# Altium integrated library Ferrite Chip.IntLib: 462 symbols (part 2 of 7)
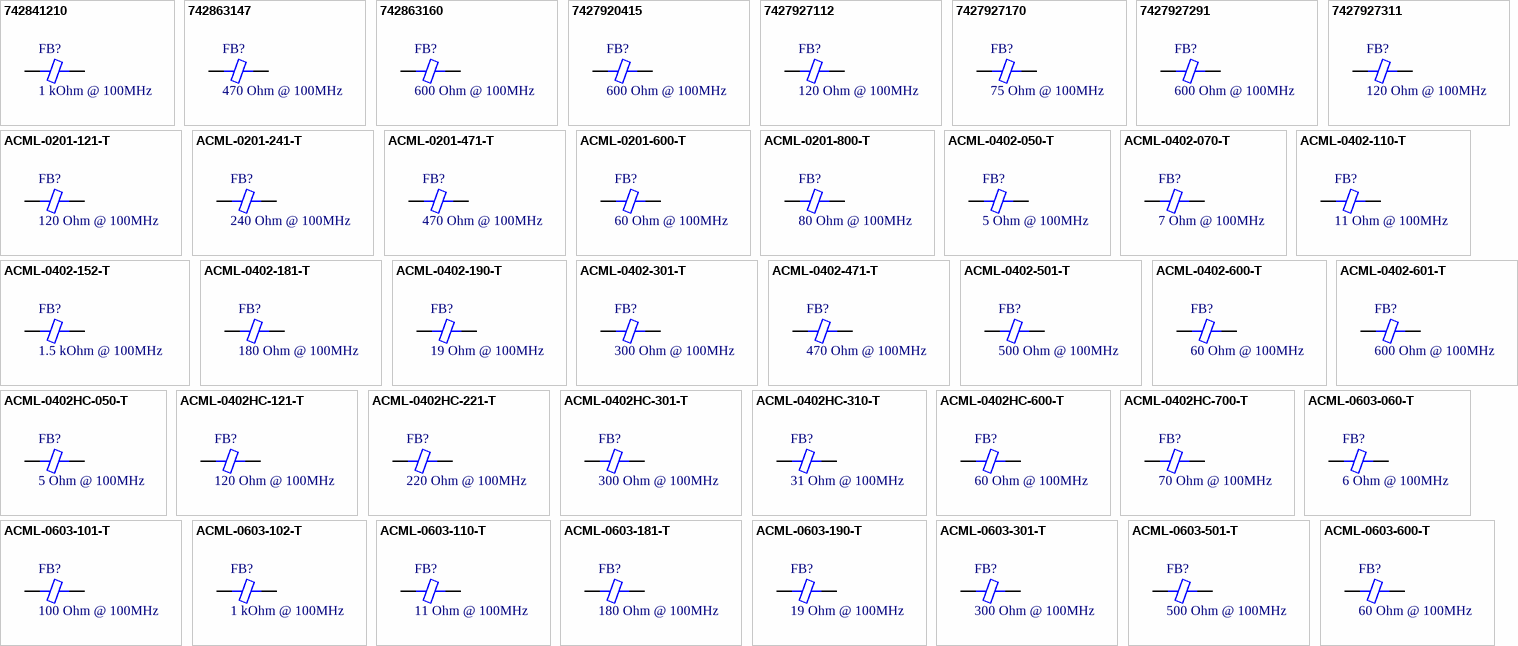
[diagram p12: symbols 742841210 to ACML-0603-600-T]

## ACML-0603-110-T
designator FB?, comment 11 Ohm @ 100MHz
FERRITE CHIP 11 OHM 1000MA 0603; Part Number: ACML-0603-110-T; Manufacturer: Abracon LLC; Type: Differential Mode - Single; DC Resistance: 50 mOhm Max; Current Rating: 1A; PartId: 6627; Value: 11 Ohm @ 100MHz; Supplier 1: Digi-Key; Supplier Part Number 1: ACML-0603-110-TTR-ND; ComponentLink1Description: Datasheet; ComponentLink1URL: http://www.abracon.com/Magnetics/new/ACML-0603.pdf; ComponentLink2Description: Digi-Key listing; ComponentLink2URL: http://digikey.com/product-detail/en/ACML-0603-110-T/ACML-0603-110-TTR-ND/2343466; Price: 0.0275; Device Package: 0603 (1608 Metric)
footprint FER 0603/1608
pins: 1, 2

## ACML-0603-181-T
designator FB?, comment 180 Ohm @ 100MHz
FERRITE CHIP 180 OHM 200MA 0603; Part Number: ACML-0603-181-T; Manufacturer: Abracon LLC; Type: Differential Mode - Single; DC Resistance: 300 mOhm Max; PartId: 6629; Value: 180 Ohm @ 100MHz; Supplier 1: Digi-Key; Supplier Part Number 1: ACML-0603-181-TTR-ND; ComponentLink1Description: Datasheet; ComponentLink1URL: http://www.abracon.com/Magnetics/new/ACML-0603.pdf; ComponentLink2Description: Digi-Key listing; ComponentLink2URL: http://digikey.com/product-detail/en/ACML-0603-181-T/ACML-0603-181-TTR-ND/2343473; Price: 0.0275; Device Package: 0603 (1608 Metric); Current Rating: 200mA
footprint FER 0603/1608
pins: 1, 2

## ACML-0603-190-T
designator FB?, comment 19 Ohm @ 100MHz
FERRITE CHIP 19 OHM 1000MA 0603; Part Number: ACML-0603-190-T; Manufacturer: Abracon LLC; Type: Differential Mode - Single; DC Resistance: 50 mOhm Max; Current Rating: 1A; PartId: 6628; Value: 19 Ohm @ 100MHz; Supplier 1: Digi-Key; Supplier Part Number 1: ACML-0603-190-TTR-ND; ComponentLink1Description: Datasheet; ComponentLink1URL: http://www.abracon.com/Magnetics/new/ACML-0603.pdf; ComponentLink2Description: Digi-Key listing; ComponentLink2URL: http://digikey.com/product-detail/en/ACML-0603-190-T/ACML-0603-190-TTR-ND/2343467; Price: 0.0275; Device Package: 0603 (1608 Metric)
footprint FER 0603/1608
pins: 1, 2

## ACML-0603-301-T
designator FB?, comment 300 Ohm @ 100MHz
FERRITE CHIP 300 OHM 200MA 0603; Part Number: ACML-0603-301-T; Manufacturer: Abracon LLC; Type: Differential Mode - Single; DC Resistance: 350 mOhm Max; PartId: 6623; Value: 300 Ohm @ 100MHz; Supplier 1: Digi-Key; Supplier Part Number 1: ACML-0603-301-TTR-ND; ComponentLink1Description: Datasheet; ComponentLink1URL: http://www.abracon.com/Magnetics/new/ACML-0603.pdf; ComponentLink2Description: Digi-Key listing; ComponentLink2URL: http://digikey.com/product-detail/en/ACML-0603-301-T/ACML-0603-301-TTR-ND/2343475; Price: 0.0275; Device Package: 0603 (1608 Metric); Current Rating: 200mA
footprint FER 0603/1608
pins: 1, 2

## ACML-0603-501-T
designator FB?, comment 500 Ohm @ 100MHz
FERRITE CHIP 500 OHM 200MA 0603; Part Number: ACML-0603-501-T; Manufacturer: Abracon LLC; Type: Differential Mode - Single; DC Resistance: 450 mOhm Max; PartId: 6630; Value: 500 Ohm @ 100MHz; Supplier 1: Digi-Key; Supplier Part Number 1: ACML-0603-501-TTR-ND; ComponentLink1Description: Datasheet; ComponentLink1URL: http://www.abracon.com/Magnetics/new/ACML-0603.pdf; ComponentLink2Description: Digi-Key listing; ComponentLink2URL: http://digikey.com/product-detail/en/ACML-0603-501-T/ACML-0603-501-TTR-ND/2343476; Price: 0.0275; Device Package: 0603 (1608 Metric); Current Rating: 200mA
footprint FER 0603/1608
pins: 1, 2

## ACML-0603-600-T
designator FB?, comment 60 Ohm @ 100MHz
FERRITE CHIP 60 OHM 600MA 0603; Part Number: ACML-0603-600-T; Manufacturer: Abracon LLC; Type: Differential Mode - Single; DC Resistance: 300 mOhm Max; PartId: 6625; Value: 60 Ohm @ 100MHz; Supplier 1: Digi-Key; Supplier Part Number 1: ACML-0603-600-TTR-ND; ComponentLink1Description: Datasheet; ComponentLink1URL: http://www.abracon.com/Magnetics/new/ACML-0603.pdf; ComponentLink2Description: Digi-Key listing; ComponentLink2URL: http://digikey.com/product-detail/en/ACML-0603-600-T/ACML-0603-600-TTR-ND/2343469; Price: 0.0275; Device Package: 0603 (1608 Metric); Current Rating: 600mA
footprint FER 0603/1608
pins: 1, 2

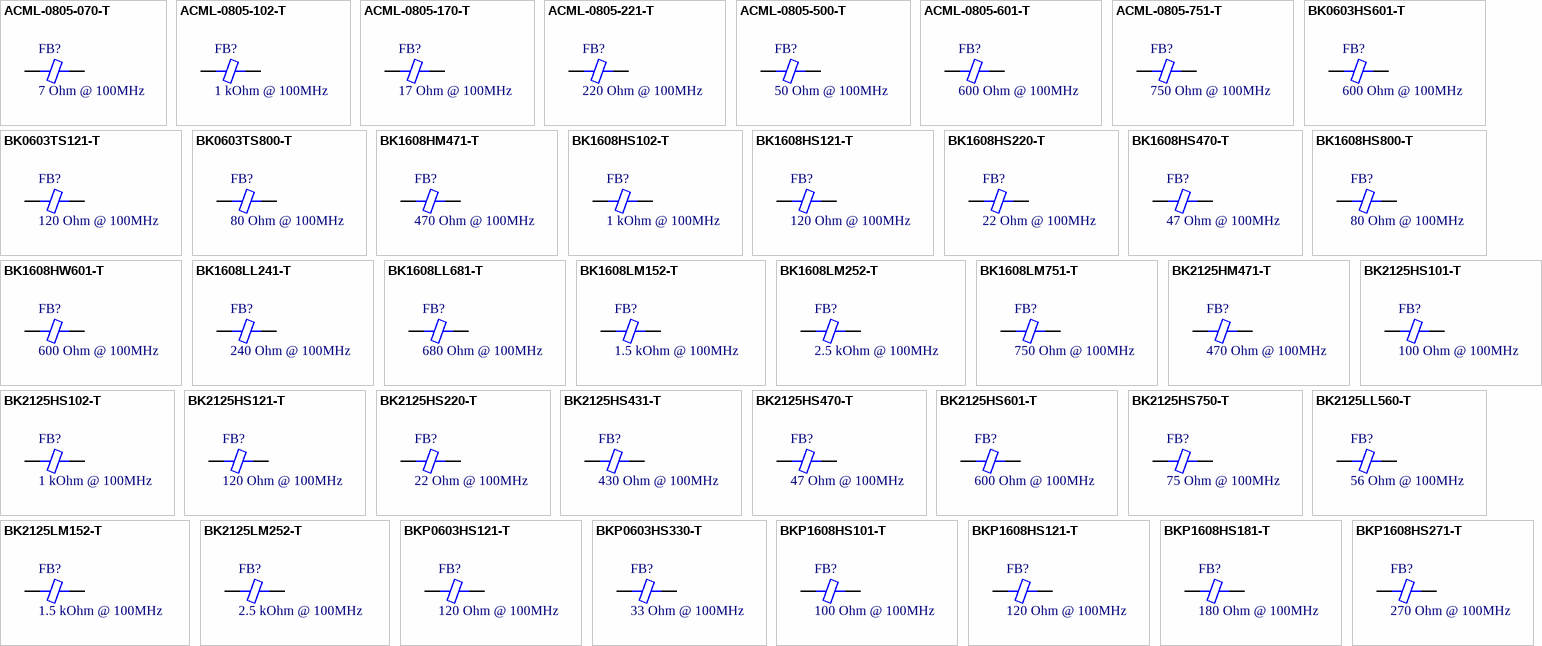
[diagram p2: symbols ACML-0805-070-T to BKP1608HS271-T]

## ACML-0805-070-T
designator FB?, comment 7 Ohm @ 100MHz
FERRITE CHIP 7 OHM 2200MA 0805; Part Number: ACML-0805-070-T; Manufacturer: Abracon LLC; DC Resistance: 50 mOhm; Current Rating: 2.2A; PartId: 6762; Value: 7 Ohm @ 100MHz; Supplier 1: Digi-Key; Supplier Part Number 1: 535-12549-2-ND; ComponentLink1Description: Datasheet; ComponentLink1URL: http://www.abracon.com/Magnetics/new/ACML-0805.pdf; ComponentLink2Description: Digi-Key listing; ComponentLink2URL: http://digikey.com/product-detail/en/ACML-0805-070-T/535-12549-2-ND/4696687; Price: 0.0166; Type: -; Device Package: 0805 (2012 Metric)
footprint FER 0805/2012
pins: 1, 2

## ACML-0805-102-T
designator FB?, comment 1 kOhm @ 100MHz
FERRITE CHIP 1000 OHM 300MA 0805; Part Number: ACML-0805-102-T; Manufacturer: Abracon LLC; DC Resistance: 450 mOhm; PartId: 6786; Value: 1 kOhm @ 100MHz; Supplier 1: Digi-Key; Supplier Part Number 1: 535-12558-2-ND; ComponentLink1Description: Datasheet; ComponentLink1URL: http://www.abracon.com/Magnetics/new/ACML-0805.pdf; ComponentLink2Description: Digi-Key listing; ComponentLink2URL: http://digikey.com/product-detail/en/ACML-0805-102-T/535-12558-2-ND/4696707; Price: 0.0298; Type: -; Device Package: 0805 (2012 Metric); Current Rating: 300mA
footprint FER 0805/2012
pins: 1, 2

## ACML-0805-170-T
designator FB?, comment 17 Ohm @ 100MHz
FERRITE CHIP 17 OHM 2000MA 0805; Part Number: ACML-0805-170-T; Manufacturer: Abracon LLC; DC Resistance: 50 mOhm; Current Rating: 2A; PartId: 6767; Value: 17 Ohm @ 100MHz; Supplier 1: Digi-Key; Supplier Part Number 1: 535-12551-2-ND; ComponentLink1Description: Datasheet; ComponentLink1URL: http://www.abracon.com/Magnetics/new/ACML-0805.pdf; ComponentLink2Description: Digi-Key listing; ComponentLink2URL: http://digikey.com/product-detail/en/ACML-0805-170-T/535-12551-2-ND/4696689; Price: 0.0172; Type: -; Device Package: 0805 (2012 Metric)
footprint FER 0805/2012
pins: 1, 2

## ACML-0805-221-T
designator FB?, comment 220 Ohm @ 100MHz
FERRITE CHIP 220 OHM 600MA 0805; Part Number: ACML-0805-221-T; Manufacturer: Abracon LLC; DC Resistance: 200 mOhm; PartId: 6765; Value: 220 Ohm @ 100MHz; Supplier 1: Digi-Key; Supplier Part Number 1: 535-12555-2-ND; ComponentLink1Description: Datasheet; ComponentLink1URL: http://www.abracon.com/Magnetics/new/ACML-0805.pdf; ComponentLink2Description: Digi-Key listing; ComponentLink2URL: http://digikey.com/product-detail/en/ACML-0805-221-T/535-12555-2-ND/4696702; Price: 0.0172; Type: -; Device Package: 0805 (2012 Metric); Current Rating: 600mA
footprint FER 0805/2012
pins: 1, 2

## ACML-0805-500-T
designator FB?, comment 50 Ohm @ 100MHz
FERRITE CHIP 50 OHM 1000MA 0805; Part Number: ACML-0805-500-T; Manufacturer: Abracon LLC; DC Resistance: 50 mOhm; Current Rating: 1A; PartId: 6764; Value: 50 Ohm @ 100MHz; Supplier 1: Digi-Key; Supplier Part Number 1: 535-12552-2-ND; ComponentLink1Description: Datasheet; ComponentLink1URL: http://www.abracon.com/Magnetics/new/ACML-0805.pdf; ComponentLink2Description: Digi-Key listing; ComponentLink2URL: http://digikey.com/product-detail/en/ACML-0805-500-T/535-12552-2-ND/4696694; Price: 0.0172; Type: -; Device Package: 0805 (2012 Metric)
footprint FER 0805/2012
pins: 1, 2

## ACML-0805-601-T
designator FB?, comment 600 Ohm @ 100MHz
FERRITE CHIP 600 OHM 500MA 0805; Part Number: ACML-0805-601-T; Manufacturer: Abracon LLC; DC Resistance: 350 mOhm; PartId: 6766; Value: 600 Ohm @ 100MHz; Supplier 1: Digi-Key; Supplier Part Number 1: 535-12556-2-ND; ComponentLink1Description: Datasheet; ComponentLink1URL: http://www.abracon.com/Magnetics/new/ACML-0805.pdf; ComponentLink2Description: Digi-Key listing; ComponentLink2URL: http://digikey.com/product-detail/en/ACML-0805-601-T/535-12556-2-ND/4696705; Price: 0.0172; Type: -; Device Package: 0805 (2012 Metric); Current Rating: 500mA
footprint FER 0805/2012
pins: 1, 2

## ACML-0805-751-T
designator FB?, comment 750 Ohm @ 100MHz
FERRITE CHIP 750 OHM 300MA 0805; Part Number: ACML-0805-751-T; Manufacturer: Abracon LLC; DC Resistance: 350 mOhm; PartId: 6785; Value: 750 Ohm @ 100MHz; Supplier 1: Digi-Key; Supplier Part Number 1: 535-12557-2-ND; ComponentLink1Description: Datasheet; ComponentLink1URL: http://www.abracon.com/Magnetics/new/ACML-0805.pdf; ComponentLink2Description: Digi-Key listing; ComponentLink2URL: http://digikey.com/product-detail/en/ACML-0805-751-T/535-12557-2-ND/4696706; Price: 0.0298; Type: -; Device Package: 0805 (2012 Metric); Current Rating: 300mA
footprint FER 0805/2012
pins: 1, 2

## BK0603HS601-T
designator FB?, comment 600 Ohm @ 100MHz
FERRITE BEAD 600 OHM 0201 1LN; Part Number: BK0603HS601-T; Manufacturer: Taiyo Yuden; DC Resistance: 1.2 Ohm; Current Rating: 150mA; PartId: 20388; Value: 600 Ohm @ 100MHz; Supplier 1: Digi-Key; Supplier Part Number 1: 587-1829-2-ND; ComponentLink1Description: Datasheet; ComponentLink1URL: http://ds.yuden.co.jp/TYCOMPAS/ut/detail.do?productNo=BK0603HS601-T&fileName=BK0603HS601-T_SS&mode=specSheetDownload; ComponentLink2Description: Digi-Key Listing; ComponentLink2URL: https://www.digikey.com/product-detail/en/taiyo-yuden/BK0603HS601-T/587-1829-2-ND/1169416; Price: 0.0295; Device Package: 0201 (0603 Metric)
footprint FER 0201/0603
pins: 1, 2

## BK0603TS121-T
designator FB?, comment 120 Ohm @ 100MHz
FERRITE BEAD 120 OHM 0201 1LN; Part Number: BK0603TS121-T; Manufacturer: Taiyo Yuden; DC Resistance: 230 mOhm; Current Rating: 450mA; PartId: 20371; Value: 120 Ohm @ 100MHz; Supplier 1: Digi-Key; Supplier Part Number 1: 587-3275-2-ND; ComponentLink1Description: Datasheet; ComponentLink1URL: http://ds.yuden.co.jp/TYCOMPAS/ut/detail.do?productNo=BK0603TS121-T&fileName=BK0603TS121-T_SS&mode=specSheetDownload; ComponentLink2Description: Digi-Key Listing; ComponentLink2URL: https://www.digikey.com/product-detail/en/taiyo-yuden/BK0603TS121-T/587-3275-2-ND/4157978; Price: 0.0295; Device Package: 0201 (0603 Metric)
footprint FER 0201/0603
pins: 1, 2

## BK0603TS800-T
designator FB?, comment 80 Ohm @ 100MHz
FERRITE BEAD 80 OHM 0201 1LN; Part Number: BK0603TS800-T; Manufacturer: Taiyo Yuden; DC Resistance: 180 mOhm; Current Rating: 500mA; PartId: 20389; Value: 80 Ohm @ 100MHz; Supplier 1: Digi-Key; Supplier Part Number 1: 587-3278-2-ND; ComponentLink1Description: Datasheet; ComponentLink1URL: http://ds.yuden.co.jp/TYCOMPAS/ut/detail.do?productNo=BK0603TS800-T&fileName=BK0603TS800-T_SS&mode=specSheetDownload; ComponentLink2Description: Digi-Key Listing; ComponentLink2URL: https://www.digikey.com/product-detail/en/taiyo-yuden/BK0603TS800-T/587-3278-2-ND/4157981; Price: 0.0295; Device Package: 0201 (0603 Metric)
footprint FER 0201/0603
pins: 1, 2

## BK1608HM471-T
designator FB?, comment 470 Ohm @ 100MHz
FERRITE CHIP 470 OHM 0603; Part Number: BK1608HM471-T; Manufacturer: Taiyo Yuden; Type: Differential Mode - Single; DC Resistance: 450 mOhm Max; Current Rating: 250mA; PartId: 6657; Value: 470 Ohm @ 100MHz; Supplier 1: Digi-Key; Supplier Part Number 1: 587-1865-2-ND; ComponentLink1Description: Datasheet; ComponentLink1URL: http://ds.yuden.co.jp/TYCOMPAS/ut/detail.do?productNo=BK1608HM471-T&fileName=BK1608HM471-T_SS&mode=specSheetDownload; ComponentLink2Description: Digi-Key listing; ComponentLink2URL: http://digikey.com/product-detail/en/BK1608HM471-T/587-1865-2-ND/957742; Price: 0.0301; Device Package: 0603 (1608 Metric)
footprint FER 0603/1608
pins: 1, 2

## BK1608HS102-T
designator FB?, comment 1 kOhm @ 100MHz
FERRITE CHIP 1000 OHM 0603; Part Number: BK1608HS102-T; Manufacturer: Taiyo Yuden; Type: Differential Mode - Single; DC Resistance: 600 mOhm Max; Current Rating: 300mA; PartId: 6589; Value: 1 kOhm @ 100MHz; Supplier 1: Digi-Key; Supplier Part Number 1: 587-1867-2-ND; ComponentLink1Description: Datasheet; ComponentLink1URL: http://ds.yuden.co.jp/TYCOMPAS/ut/detail.do?productNo=BK1608HS102-T&fileName=BK1608HS102-T_SS&mode=specSheetDownload; ComponentLink2Description: Digi-Key listing; ComponentLink2URL: http://digikey.com/product-detail/en/BK1608HS102-T/587-1867-2-ND/957744; Price: 0.0247; Device Package: 0603 (1608 Metric)
footprint FER 0603/1608
pins: 1, 2

## BK1608HS121-T
designator FB?, comment 120 Ohm @ 100MHz
FERRITE CHIP 120 OHM 0603; Part Number: BK1608HS121-T; Manufacturer: Taiyo Yuden; Type: Differential Mode - Single; DC Resistance: 180 mOhm Max; Current Rating: 500mA; PartId: 6593; Value: 120 Ohm @ 100MHz; Supplier 1: Digi-Key; Supplier Part Number 1: 587-1868-2-ND; ComponentLink1Description: Datasheet; ComponentLink1URL: http://ds.yuden.co.jp/TYCOMPAS/ut/detail.do?productNo=BK1608HS121-T&fileName=BK1608HS121-T_SS&mode=specSheetDownload; ComponentLink2Description: Digi-Key listing; ComponentLink2URL: http://digikey.com/product-detail/en/BK1608HS121-T/587-1868-2-ND/957745; Price: 0.0247; Device Package: 0603 (1608 Metric)
footprint FER 0603/1608
pins: 1, 2

## BK1608HS220-T
designator FB?, comment 22 Ohm @ 100MHz
FERRITE CHIP 22 OHM 0603; Part Number: BK1608HS220-T; Manufacturer: Taiyo Yuden; Type: Differential Mode - Single; DC Resistance: 50 mOhm Max; Current Rating: 1.5A; PartId: 6654; Value: 22 Ohm @ 100MHz; Supplier 1: Digi-Key; Supplier Part Number 1: 587-1869-2-ND; ComponentLink1Description: Datasheet; ComponentLink1URL: http://ds.yuden.co.jp/TYCOMPAS/ut/detail.do?productNo=BK1608HS220-T&fileName=BK1608HS220-T_SS&mode=specSheetDownload; ComponentLink2Description: Digi-Key listing; ComponentLink2URL: http://digikey.com/product-detail/en/BK1608HS220-T/587-1869-2-ND/957746; Price: 0.0301; Device Package: 0603 (1608 Metric)
footprint FER 0603/1608
pins: 1, 2

## BK1608HS470-T
designator FB?, comment 47 Ohm @ 100MHz
FERRITE CHIP 47 OHM 0603; Part Number: BK1608HS470-T; Manufacturer: Taiyo Yuden; Type: Differential Mode - Single; DC Resistance: 100 mOhm Max; Current Rating: 900mA; PartId: 6650; Value: 47 Ohm @ 100MHz; Supplier 1: Digi-Key; Supplier Part Number 1: 587-1872-2-ND; ComponentLink1Description: Datasheet; ComponentLink1URL: http://ds.yuden.co.jp/TYCOMPAS/ut/detail.do?productNo=BK1608HS470-T&fileName=BK1608HS470-T_SS&mode=specSheetDownload; ComponentLink2Description: Digi-Key listing; ComponentLink2URL: http://digikey.com/product-detail/en/BK1608HS470-T/587-1872-2-ND/957749; Price: 0.0301; Device Package: 0603 (1608 Metric)
footprint FER 0603/1608
pins: 1, 2

## BK1608HS800-T
designator FB?, comment 80 Ohm @ 100MHz
FERRITE CHIP 80 OHM 0603; Part Number: BK1608HS800-T; Manufacturer: Taiyo Yuden; Type: Differential Mode - Single; DC Resistance: 100 mOhm Max; Current Rating: 600mA; PartId: 6652; Value: 80 Ohm @ 100MHz; Supplier 1: Digi-Key; Supplier Part Number 1: 587-1875-2-ND; ComponentLink1Description: Datasheet; ComponentLink1URL: http://ds.yuden.co.jp/TYCOMPAS/ut/detail.do?productNo=BK1608HS800-T&fileName=BK1608HS800-T_SS&mode=specSheetDownload; ComponentLink2Description: Digi-Key listing; ComponentLink2URL: http://digikey.com/product-detail/en/BK1608HS800-T/587-1875-2-ND/957752; Price: 0.0301; Device Package: 0603 (1608 Metric)
footprint FER 0603/1608
pins: 1, 2

## BK1608HW601-T
designator FB?, comment 600 Ohm @ 100MHz
FERRITE CHIP 600 OHM 0603; Part Number: BK1608HW601-T; Manufacturer: Taiyo Yuden; Type: Differential Mode - Single; DC Resistance: 400 mOhm Max; Current Rating: 300mA; PartId: 6588; Value: 600 Ohm @ 100MHz; Supplier 1: Digi-Key; Supplier Part Number 1: 587-1879-2-ND; ComponentLink1Description: Datasheet; ComponentLink1URL: http://ds.yuden.co.jp/TYCOMPAS/ut/detail.do?productNo=BK1608HW601-T&fileName=BK1608HW601-T_SS&mode=specSheetDownload; ComponentLink2Description: Digi-Key listing; ComponentLink2URL: http://digikey.com/product-detail/en/BK1608HW601-T/587-1879-2-ND/957756; Price: 0.0247; Device Package: 0603 (1608 Metric)
footprint FER 0603/1608
pins: 1, 2

## BK1608LL241-T
designator FB?, comment 240 Ohm @ 100MHz
FERRITE CHIP 240 OHM 0603; Part Number: BK1608LL241-T; Manufacturer: Taiyo Yuden; Type: Differential Mode - Single; DC Resistance: 800 mOhm Max; Current Rating: 250mA; PartId: 6659; Value: 240 Ohm @ 100MHz; Supplier 1: Digi-Key; Supplier Part Number 1: 587-1882-2-ND; ComponentLink1Description: Datasheet; ComponentLink1URL: http://ds.yuden.co.jp/TYCOMPAS/ut/detail.do?productNo=BK1608LL241-T&fileName=BK1608LL241-T_SS&mode=specSheetDownload; ComponentLink2Description: Digi-Key listing; ComponentLink2URL: http://digikey.com/product-detail/en/BK1608LL241-T/587-1882-2-ND/957759; Price: 0.0301; Device Package: 0603 (1608 Metric)
footprint FER 0603/1608
pins: 1, 2

## BK1608LL681-T
designator FB?, comment 680 Ohm @ 100MHz
FERRITE CHIP 680 OHM 0603; Part Number: BK1608LL681-T; Manufacturer: Taiyo Yuden; Type: Differential Mode - Single; DC Resistance: 1 Ohm Max; Current Rating: 150mA; PartId: 6660; Value: 680 Ohm @ 100MHz; Supplier 1: Digi-Key; Supplier Part Number 1: 587-1890-2-ND; ComponentLink1Description: Datasheet; ComponentLink1URL: http://ds.yuden.co.jp/TYCOMPAS/ut/detail.do?productNo=BK1608LL681-T&fileName=BK1608LL681-T_SS&mode=specSheetDownload; ComponentLink2Description: Digi-Key listing; ComponentLink2URL: http://digikey.com/product-detail/en/BK1608LL681-T/587-1890-2-ND/957767; Price: 0.0301; Device Package: 0603 (1608 Metric)
footprint FER 0603/1608
pins: 1, 2

## BK1608LM152-T
designator FB?, comment 1.5 kOhm @ 100MHz
FERRITE CHIP 1500 OHM 0603; Part Number: BK1608LM152-T; Manufacturer: Taiyo Yuden; Type: Differential Mode - Single; DC Resistance: 750 mOhm Max; Current Rating: 250mA; PartId: 6658; Value: 1.5 kOhm @ 100MHz; Supplier 1: Digi-Key; Supplier Part Number 1: 587-1891-2-ND; ComponentLink1Description: Datasheet; ComponentLink1URL: http://ds.yuden.co.jp/TYCOMPAS/ut/detail.do?productNo=BK1608LM152-T&fileName=BK1608LM152-T_SS&mode=specSheetDownload; ComponentLink2Description: Digi-Key listing; ComponentLink2URL: http://digikey.com/product-detail/en/BK1608LM152-T/587-1891-2-ND/957768; Price: 0.0301; Device Package: 0603 (1608 Metric)
footprint FER 0603/1608
pins: 1, 2

## BK1608LM252-T
designator FB?, comment 2.5 kOhm @ 100MHz
FERRITE CHIP 2500 OHM 0603; Part Number: BK1608LM252-T; Manufacturer: Taiyo Yuden; Type: Differential Mode - Single; DC Resistance: 1.1 Ohm Max; Current Rating: 200mA; PartId: 6587; Value: 2.5 kOhm @ 100MHz; Supplier 1: Digi-Key; Supplier Part Number 1: 587-1893-2-ND; ComponentLink1Description: Datasheet; ComponentLink1URL: http://ds.yuden.co.jp/TYCOMPAS/ut/detail.do?productNo=BK1608LM252-T&fileName=BK1608LM252-T_SS&mode=specSheetDownload; ComponentLink2Description: Digi-Key listing; ComponentLink2URL: http://digikey.com/product-detail/en/BK1608LM252-T/587-1893-2-ND/957770; Price: 0.0247; Device Package: 0603 (1608 Metric)
footprint FER 0603/1608
pins: 1, 2

## BK1608LM751-T
designator FB?, comment 750 Ohm @ 100MHz
FERRITE CHIP 750 OHM 0603; Part Number: BK1608LM751-T; Manufacturer: Taiyo Yuden; Type: Differential Mode - Single; DC Resistance: 600 mOhm Max; Current Rating: 300mA; PartId: 6663; Value: 750 Ohm @ 100MHz; Supplier 1: Digi-Key; Supplier Part Number 1: 587-1894-2-ND; ComponentLink1Description: Datasheet; ComponentLink1URL: http://ds.yuden.co.jp/TYCOMPAS/ut/detail.do?productNo=BK1608LM751-T&fileName=BK1608LM751-T_SS&mode=specSheetDownload; ComponentLink2Description: Digi-Key listing; ComponentLink2URL: http://digikey.com/product-detail/en/BK1608LM751-T/587-1894-2-ND/957771; Price: 0.0301; Device Package: 0603 (1608 Metric)
footprint FER 0603/1608
pins: 1, 2

## BK2125HM471-T
designator FB?, comment 470 Ohm @ 100MHz
FERRITE CHIP 470 OHM 0805; Part Number: BK2125HM471-T; Manufacturer: Taiyo Yuden; Type: Differential Mode - Single; DC Resistance: 250 mOhm Max; Current Rating: 500mA; PartId: 6812; Value: 470 Ohm @ 100MHz; Supplier 1: Digi-Key; Supplier Part Number 1: 587-1901-2-ND; ComponentLink1Description: Datasheet; ComponentLink1URL: http://ds.yuden.co.jp/TYCOMPAS/ut/detail.do?productNo=BK2125HM471-T&fileName=BK2125HM471-T_SS&mode=specSheetDownload; ComponentLink2Description: Digi-Key listing; ComponentLink2URL: http://digikey.com/product-detail/en/BK2125HM471-T/587-1901-2-ND/957802; Price: 0.0368; Device Package: 0805 (2012 Metric)
footprint FER 0805/2012
pins: 1, 2

## BK2125HS101-T
designator FB?, comment 100 Ohm @ 100MHz
FERRITE CHIP 100 OHM 0805; Part Number: BK2125HS101-T; Manufacturer: Taiyo Yuden; Type: Differential Mode - Single; DC Resistance: 100 mOhm Max; Current Rating: 900mA; PartId: 6777; Value: 100 Ohm @ 100MHz; Supplier 1: Digi-Key; Supplier Part Number 1: 587-1903-2-ND; ComponentLink1Description: Datasheet; ComponentLink1URL: http://ds.yuden.co.jp/TYCOMPAS/ut/detail.do?productNo=BK2125HS101-T&fileName=BK2125HS101-T_SS&mode=specSheetDownload; ComponentLink2Description: Digi-Key listing; ComponentLink2URL: http://digikey.com/product-detail/en/BK2125HS101-T/587-1903-2-ND/957804; Price: 0.0278; Device Package: 0805 (2012 Metric)
footprint FER 0805/2012
pins: 1, 2

## BK2125HS102-T
designator FB?, comment 1 kOhm @ 100MHz
FERRITE CHIP 1000 OHM 0805; Part Number: BK2125HS102-T; Manufacturer: Taiyo Yuden; Type: Differential Mode - Single; DC Resistance: 400 mOhm Max; Current Rating: 300mA; PartId: 6778; Value: 1 kOhm @ 100MHz; Supplier 1: Digi-Key; Supplier Part Number 1: 587-1904-2-ND; ComponentLink1Description: Datasheet; ComponentLink1URL: http://ds.yuden.co.jp/TYCOMPAS/ut/detail.do?productNo=BK2125HS102-T&fileName=BK2125HS102-T_SS&mode=specSheetDownload; ComponentLink2Description: Digi-Key listing; ComponentLink2URL: http://digikey.com/product-detail/en/BK2125HS102-T/587-1904-2-ND/957805; Price: 0.0278; Device Package: 0805 (2012 Metric)
footprint FER 0805/2012
pins: 1, 2

## BK2125HS121-T
designator FB?, comment 120 Ohm @ 100MHz
FERRITE CHIP 120 OHM 0805; Part Number: BK2125HS121-T; Manufacturer: Taiyo Yuden; Type: Differential Mode - Single; DC Resistance: 150 mOhm Max; Current Rating: 800mA; PartId: 6781; Value: 120 Ohm @ 100MHz; Supplier 1: Digi-Key; Supplier Part Number 1: 587-1905-2-ND; ComponentLink1Description: Datasheet; ComponentLink1URL: http://ds.yuden.co.jp/TYCOMPAS/ut/detail.do?productNo=BK2125HS121-T&fileName=BK2125HS121-T_SS&mode=specSheetDownload; ComponentLink2Description: Digi-Key listing; ComponentLink2URL: http://digikey.com/product-detail/en/BK2125HS121-T/587-1905-2-ND/957806; Price: 0.0278; Device Package: 0805 (2012 Metric)
footprint FER 0805/2012
pins: 1, 2

## BK2125HS220-T
designator FB?, comment 22 Ohm @ 100MHz
FERRITE CHIP 22 OHM 0805; Part Number: BK2125HS220-T; Manufacturer: Taiyo Yuden; Type: Differential Mode - Single; DC Resistance: 50 mOhm Max; Current Rating: 1.2A; PartId: 6808; Value: 22 Ohm @ 100MHz; Supplier 1: Digi-Key; Supplier Part Number 1: 587-1907-2-ND; ComponentLink1Description: Datasheet; ComponentLink1URL: http://ds.yuden.co.jp/TYCOMPAS/ut/detail.do?productNo=BK2125HS220-T&fileName=BK2125HS220-T_SS&mode=specSheetDownload; ComponentLink2Description: Digi-Key listing; ComponentLink2URL: http://digikey.com/product-detail/en/BK2125HS220-T/587-1907-2-ND/957808; Price: 0.0368; Device Package: 0805 (2012 Metric)
footprint FER 0805/2012
pins: 1, 2

## BK2125HS431-T
designator FB?, comment 430 Ohm @ 100MHz
FERRITE CHIP 430 OHM 0805; Part Number: BK2125HS431-T; Manufacturer: Taiyo Yuden; Type: Differential Mode - Single; DC Resistance: 250 mOhm Max; Current Rating: 500mA; PartId: 6815; Value: 430 Ohm @ 100MHz; Supplier 1: Digi-Key; Supplier Part Number 1: 587-1910-2-ND; ComponentLink1Description: Datasheet; ComponentLink1URL: http://ds.yuden.co.jp/TYCOMPAS/ut/detail.do?productNo=BK2125HS431-T&fileName=BK2125HS431-T_SS&mode=specSheetDownload; ComponentLink2Description: Digi-Key listing; ComponentLink2URL: http://digikey.com/product-detail/en/BK2125HS431-T/587-1910-2-ND/957811; Price: 0.0368; Device Package: 0805 (2012 Metric)
footprint FER 0805/2012
pins: 1, 2

## BK2125HS470-T
designator FB?, comment 47 Ohm @ 100MHz
FERRITE CHIP 47 OHM 0805; Part Number: BK2125HS470-T; Manufacturer: Taiyo Yuden; Type: Differential Mode - Single; DC Resistance: 50 mOhm Max; Current Rating: 1A; PartId: 6776; Value: 47 Ohm @ 100MHz; Supplier 1: Digi-Key; Supplier Part Number 1: 587-1911-2-ND; ComponentLink1Description: Datasheet; ComponentLink1URL: http://ds.yuden.co.jp/TYCOMPAS/ut/detail.do?productNo=BK2125HS470-T&fileName=BK2125HS470-T_SS&mode=specSheetDownload; ComponentLink2Description: Digi-Key listing; ComponentLink2URL: http://digikey.com/product-detail/en/BK2125HS470-T/587-1911-2-ND/957812; Price: 0.0278; Device Package: 0805 (2012 Metric)
footprint FER 0805/2012
pins: 1, 2

## BK2125HS601-T
designator FB?, comment 600 Ohm @ 100MHz
FERRITE CHIP 600 OHM 0805; Part Number: BK2125HS601-T; Manufacturer: Taiyo Yuden; Type: Differential Mode - Single; DC Resistance: 300 mOhm Max; Current Rating: 500mA; PartId: 6779; Value: 600 Ohm @ 100MHz; Supplier 1: Digi-Key; Supplier Part Number 1: 587-1912-2-ND; ComponentLink1Description: Datasheet; ComponentLink1URL: http://ds.yuden.co.jp/TYCOMPAS/ut/detail.do?productNo=BK2125HS601-T&fileName=BK2125HS601-T_SS&mode=specSheetDownload; ComponentLink2Description: Digi-Key listing; ComponentLink2URL: http://digikey.com/product-detail/en/BK2125HS601-T/587-1912-2-ND/957813; Price: 0.0278; Device Package: 0805 (2012 Metric)
footprint FER 0805/2012
pins: 1, 2

## BK2125HS750-T
designator FB?, comment 75 Ohm @ 100MHz
FERRITE CHIP 75 OHM 0805; Part Number: BK2125HS750-T; Manufacturer: Taiyo Yuden; Type: Differential Mode - Single; DC Resistance: 100 mOhm Max; Current Rating: 1A; PartId: 6810; Value: 75 Ohm @ 100MHz; Supplier 1: Digi-Key; Supplier Part Number 1: 587-1913-2-ND; ComponentLink1Description: Datasheet; ComponentLink1URL: http://ds.yuden.co.jp/TYCOMPAS/ut/detail.do?productNo=BK2125HS750-T&fileName=BK2125HS750-T_SS&mode=specSheetDownload; ComponentLink2Description: Digi-Key listing; ComponentLink2URL: http://digikey.com/product-detail/en/BK2125HS750-T/587-1913-2-ND/957814; Price: 0.0368; Device Package: 0805 (2012 Metric)
footprint FER 0805/2012
pins: 1, 2

## BK2125LL560-T
designator FB?, comment 56 Ohm @ 100MHz
FERRITE CHIP 56 OHM 0805; Part Number: BK2125LL560-T; Manufacturer: Taiyo Yuden; Type: Differential Mode - Single; DC Resistance: 200 mOhm Max; Current Rating: 600mA; PartId: 6813; Value: 56 Ohm @ 100MHz; Supplier 1: Digi-Key; Supplier Part Number 1: 587-1916-2-ND; ComponentLink1Description: Datasheet; ComponentLink1URL: http://ds.yuden.co.jp/TYCOMPAS/ut/detail.do?productNo=BK2125LL560-T&fileName=BK2125LL560-T_SS&mode=specSheetDownload; ComponentLink2Description: Digi-Key listing; ComponentLink2URL: http://digikey.com/product-detail/en/BK2125LL560-T/587-1916-2-ND/957817; Price: 0.0368; Device Package: 0805 (2012 Metric)
footprint FER 0805/2012
pins: 1, 2

## BK2125LM152-T
designator FB?, comment 1.5 kOhm @ 100MHz
FERRITE CHIP 1500 OHM 0805; Part Number: BK2125LM152-T; Manufacturer: Taiyo Yuden; Type: Differential Mode - Single; DC Resistance: 350 mOhm Max; Current Rating: 400mA; PartId: 6814; Value: 1.5 kOhm @ 100MHz; Supplier 1: Digi-Key; Supplier Part Number 1: 587-1917-2-ND; ComponentLink1Description: Datasheet; ComponentLink1URL: http://ds.yuden.co.jp/TYCOMPAS/ut/detail.do?productNo=BK2125LM152-T&fileName=BK2125LM152-T_SS&mode=specSheetDownload; ComponentLink2Description: Digi-Key listing; ComponentLink2URL: http://digikey.com/product-detail/en/BK2125LM152-T/587-1917-2-ND/957818; Price: 0.0368; Device Package: 0805 (2012 Metric)
footprint FER 0805/2012
pins: 1, 2

## BK2125LM252-T
designator FB?, comment 2.5 kOhm @ 100MHz
FERRITE CHIP 2500 OHM 0805; Part Number: BK2125LM252-T; Manufacturer: Taiyo Yuden; Type: Differential Mode - Single; DC Resistance: 750 mOhm Max; Current Rating: 200mA; PartId: 6794; Value: 2.5 kOhm @ 100MHz; Supplier 1: Digi-Key; Supplier Part Number 1: 587-1919-2-ND; ComponentLink1Description: Datasheet; ComponentLink1URL: http://ds.yuden.co.jp/TYCOMPAS/ut/detail.do?productNo=BK2125LM252-T&fileName=BK2125LM252-T_SS&mode=specSheetDownload; ComponentLink2Description: Digi-Key listing; ComponentLink2URL: http://digikey.com/product-detail/en/BK2125LM252-T/587-1919-2-ND/957820; Price: 0.033; Device Package: 0805 (2012 Metric)
footprint FER 0805/2012
pins: 1, 2

## BKP0603HS121-T
designator FB?, comment 120 Ohm @ 100MHz
FERRITE BEAD 120 OHM 0201 1LN; Part Number: BKP0603HS121-T; Manufacturer: Taiyo Yuden; DC Resistance: 150 mOhm; Current Rating: 850mA; PartId: 20369; Value: 120 Ohm @ 100MHz; Supplier 1: Digi-Key; Supplier Part Number 1: 587-3286-2-ND; ComponentLink1Description: Datasheet; ComponentLink1URL: http://ds.yuden.co.jp/TYCOMPAS/ut/detail.do?productNo=BKP0603HS121-T&fileName=BKP0603HS121-T_SS&mode=specSheetDownload; ComponentLink2Description: Digi-Key Listing; ComponentLink2URL: https://www.digikey.com/product-detail/en/taiyo-yuden/BKP0603HS121-T/587-3286-2-ND/4157986; Price: 0.0295; Device Package: 0201 (0603 Metric)
footprint FER 0201/0603
pins: 1, 2

## BKP0603HS330-T
designator FB?, comment 33 Ohm @ 100MHz
FERRITE BEAD 33 OHM 0201 1LN; Part Number: BKP0603HS330-T; Manufacturer: Taiyo Yuden; DC Resistance: 70 mOhm; Current Rating: 1A; PartId: 20370; Value: 33 Ohm @ 100MHz; Supplier 1: Digi-Key; Supplier Part Number 1: 587-2197-2-ND; ComponentLink1Description: Datasheet; ComponentLink1URL: http://ds.yuden.co.jp/TYCOMPAS/ut/detail.do?productNo=BKP0603HS330-T&fileName=BKP0603HS330-T_SS&mode=specSheetDownload; ComponentLink2Description: Digi-Key Listing; ComponentLink2URL: https://www.digikey.com/product-detail/en/taiyo-yuden/BKP0603HS330-T/587-2197-2-ND/2002812; Price: 0.0295; Device Package: 0201 (0603 Metric)
footprint FER 0201/0603
pins: 1, 2

## BKP1608HS101-T
designator FB?, comment 100 Ohm @ 100MHz
FERRITE CHIP 100 OHM 0603; Part Number: BKP1608HS101-T; Manufacturer: Taiyo Yuden; Type: Differential Mode - Single; DC Resistance: 50 mOhm Max; Current Rating: 1.7A; PartId: 6594; Value: 100 Ohm @ 100MHz; Supplier 1: Digi-Key; Supplier Part Number 1: 587-1922-2-ND; ComponentLink1Description: Datasheet; ComponentLink1URL: http://ds.yuden.co.jp/TYCOMPAS/ut/detail.do?productNo=BKP1608HS101-T&fileName=BKP1608HS101-T_SS&mode=specSheetDownload; ComponentLink2Description: Digi-Key listing; ComponentLink2URL: http://digikey.com/product-detail/en/BKP1608HS101-T/587-1922-2-ND/957775; Price: 0.0247; Device Package: 0603 (1608 Metric)
footprint FER 0603/1608
pins: 1, 2

## BKP1608HS121-T
designator FB?, comment 120 Ohm @ 100MHz
FERRITE CHIP 120OHM 0603; Part Number: BKP1608HS121-T; Manufacturer: Taiyo Yuden; Type: Differential Mode - Single; DC Resistance: 35 mOhm Max; Current Rating: 2.7A; PartId: 6592; Value: 120 Ohm @ 100MHz; Supplier 1: Digi-Key; Supplier Part Number 1: 587-1923-2-ND; ComponentLink1Description: Datasheet; ComponentLink1URL: http://ds.yuden.co.jp/TYCOMPAS/ut/detail.do?productNo=BKP1608HS121-T&fileName=BKP1608HS121-T_SS&mode=specSheetDownload; ComponentLink2Description: Digi-Key listing; ComponentLink2URL: http://digikey.com/product-detail/en/BKP1608HS121-T/587-1923-2-ND/1169453; Price: 0.0247; Device Package: 0603 (1608 Metric)
footprint FER 0603/1608
pins: 1, 2

## BKP1608HS181-T
designator FB?, comment 180 Ohm @ 100MHz
FERRITE CHIP 180 OHM 0603; Part Number: BKP1608HS181-T; Manufacturer: Taiyo Yuden; Type: Differential Mode - Single; DC Resistance: 75 mOhm Max; Current Rating: 1.5A; PartId: 6595; Value: 180 Ohm @ 100MHz; Supplier 1: Digi-Key; Supplier Part Number 1: 587-1924-2-ND; ComponentLink1Description: Datasheet; ComponentLink1URL: http://ds.yuden.co.jp/TYCOMPAS/ut/detail.do?productNo=BKP1608HS181-T&fileName=BKP1608HS181-T_SS&mode=specSheetDownload; ComponentLink2Description: Digi-Key listing; ComponentLink2URL: http://digikey.com/product-detail/en/BKP1608HS181-T/587-1924-2-ND/957776; Price: 0.0247; Device Package: 0603 (1608 Metric)
footprint FER 0603/1608
pins: 1, 2

## BKP1608HS271-T
designator FB?, comment 270 Ohm @ 100MHz
FERRITE CHIP 270 OHM 0603; Part Number: BKP1608HS271-T; Manufacturer: Taiyo Yuden; Type: Differential Mode - Single; DC Resistance: 110 mOhm Max; Current Rating: 1.2A; PartId: 6653; Value: 270 Ohm @ 100MHz; Supplier 1: Digi-Key; Supplier Part Number 1: 587-1925-2-ND; ComponentLink1Description: Datasheet; ComponentLink1URL: http://ds.yuden.co.jp/TYCOMPAS/ut/detail.do?productNo=BKP1608HS271-T&fileName=BKP1608HS271-T_SS&mode=specSheetDownload; ComponentLink2Description: Digi-Key listing; ComponentLink2URL: http://digikey.com/product-detail/en/BKP1608HS271-T/587-1925-2-ND/957777; Price: 0.0301; Device Package: 0603 (1608 Metric)
footprint FER 0603/1608
pins: 1, 2

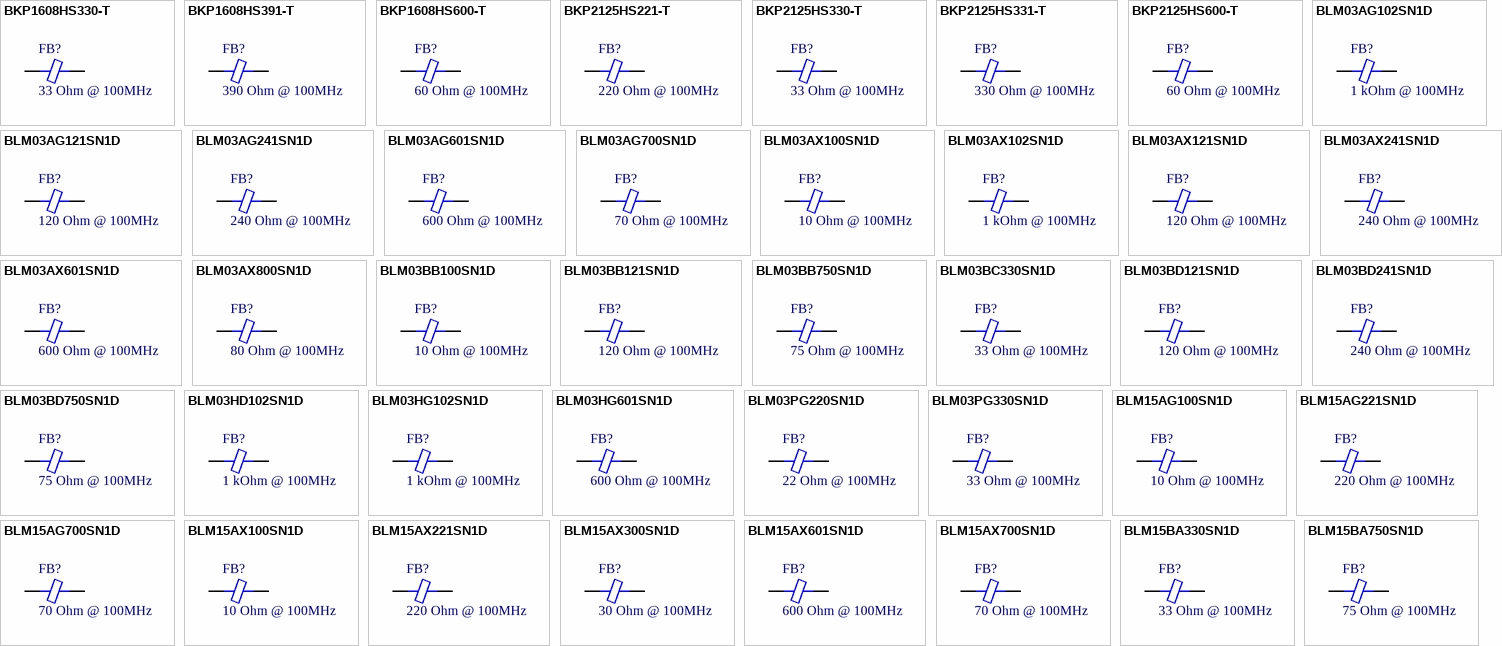
[diagram p3: symbols BKP1608HS330-T to BLM15BA750SN1D]

## BKP1608HS330-T
designator FB?, comment 33 Ohm @ 100MHz
FERRITE CHIP 33 OHM 0603; Part Number: BKP1608HS330-T; Manufacturer: Taiyo Yuden; Type: Differential Mode - Single; DC Resistance: 25 mOhm Max; Current Rating: 3A; PartId: 6656; Value: 33 Ohm @ 100MHz; Supplier 1: Digi-Key; Supplier Part Number 1: 587-1926-2-ND; ComponentLink1Description: Datasheet; ComponentLink1URL: http://ds.yuden.co.jp/TYCOMPAS/ut/detail.do?productNo=BKP1608HS330-T&fileName=BKP1608HS330-T_SS&mode=specSheetDownload; ComponentLink2Description: Digi-Key listing; ComponentLink2URL: http://digikey.com/product-detail/en/BKP1608HS330-T/587-1926-2-ND/957778; Price: 0.0301; Device Package: 0603 (1608 Metric)
footprint FER 0603/1608
pins: 1, 2

## BKP1608HS391-T
designator FB?, comment 390 Ohm @ 100MHz
FERRITE CHIP 390 OHM 0603; Part Number: BKP1608HS391-T; Manufacturer: Taiyo Yuden; Type: Differential Mode - Single; DC Resistance: 140 mOhm Max; Current Rating: 1A; PartId: 6649; Value: 390 Ohm @ 100MHz; Supplier 1: Digi-Key; Supplier Part Number 1: 587-1927-2-ND; ComponentLink1Description: Datasheet; ComponentLink1URL: http://ds.yuden.co.jp/TYCOMPAS/ut/detail.do?productNo=BKP1608HS391-T&fileName=BKP1608HS391-T_SS&mode=specSheetDownload; ComponentLink2Description: Digi-Key listing; ComponentLink2URL: http://digikey.com/product-detail/en/BKP1608HS391-T/587-1927-2-ND/957779; Price: 0.0301; Device Package: 0603 (1608 Metric)
footprint FER 0603/1608
pins: 1, 2

## BKP1608HS600-T
designator FB?, comment 60 Ohm @ 100MHz
FERRITE CHIP 60 OHM 0603; Part Number: BKP1608HS600-T; Manufacturer: Taiyo Yuden; Type: Differential Mode - Single; DC Resistance: 40 mOhm Max; Current Rating: 2.5A; PartId: 6590; Value: 60 Ohm @ 100MHz; Supplier 1: Digi-Key; Supplier Part Number 1: 587-1928-2-ND; ComponentLink1Description: Datasheet; ComponentLink1URL: http://ds.yuden.co.jp/TYCOMPAS/ut/detail.do?productNo=BKP1608HS600-T&fileName=BKP1608HS600-T_SS&mode=specSheetDownload; ComponentLink2Description: Digi-Key listing; ComponentLink2URL: http://digikey.com/product-detail/en/BKP1608HS600-T/587-1928-2-ND/957780; Price: 0.0247; Device Package: 0603 (1608 Metric)
footprint FER 0603/1608
pins: 1, 2

## BKP2125HS221-T
designator FB?, comment 220 Ohm @ 100MHz
FERRITE CHIP 220 OHM 0805; Part Number: BKP2125HS221-T; Manufacturer: Taiyo Yuden; Type: Differential Mode - Single; DC Resistance: 50 mOhm Max; Current Rating: 2A; PartId: 6780; Value: 220 Ohm @ 100MHz; Supplier 1: Digi-Key; Supplier Part Number 1: 587-1930-2-ND; ComponentLink1Description: Datasheet; ComponentLink1URL: http://ds.yuden.co.jp/TYCOMPAS/ut/detail.do?productNo=BKP2125HS221-T&fileName=BKP2125HS221-T_SS&mode=specSheetDownload; ComponentLink2Description: Digi-Key listing; ComponentLink2URL: http://digikey.com/product-detail/en/BKP2125HS221-T/587-1930-2-ND/957823; Price: 0.0278; Device Package: 0805 (2012 Metric)
footprint FER 0805/2012
pins: 1, 2

## BKP2125HS330-T
designator FB?, comment 33 Ohm @ 100MHz
FERRITE CHIP 33 OHM 0805; Part Number: BKP2125HS330-T; Manufacturer: Taiyo Yuden; Type: Differential Mode - Single; DC Resistance: 20 mOhm Max; Current Rating: 4A; PartId: 6809; Value: 33 Ohm @ 100MHz; Supplier 1: Digi-Key; Supplier Part Number 1: 587-1931-2-ND; ComponentLink1Description: Datasheet; ComponentLink1URL: http://ds.yuden.co.jp/TYCOMPAS/ut/detail.do?productNo=BKP2125HS330-T&fileName=BKP2125HS330-T_SS&mode=specSheetDownload; ComponentLink2Description: Digi-Key listing; ComponentLink2URL: http://digikey.com/product-detail/en/BKP2125HS330-T/587-1931-2-ND/957824; Price: 0.0368; Device Package: 0805 (2012 Metric)
footprint FER 0805/2012
pins: 1, 2

## BKP2125HS331-T
designator FB?, comment 330 Ohm @ 100MHz
FERRITE CHIP 330 OHM 0805; Part Number: BKP2125HS331-T; Manufacturer: Taiyo Yuden; Type: Differential Mode - Single; DC Resistance: 75 mOhm Max; Current Rating: 1.5A; PartId: 6811; Value: 330 Ohm @ 100MHz; Supplier 1: Digi-Key; Supplier Part Number 1: 587-2485-2-ND; ComponentLink1Description: Datasheet; ComponentLink1URL: http://ds.yuden.co.jp/TYCOMPAS/ut/detail.do?productNo=BKP2125HS331-T&fileName=BKP2125HS331-T_SS&mode=specSheetDownload; ComponentLink2Description: Digi-Key listing; ComponentLink2URL: http://digikey.com/product-detail/en/BKP2125HS331-T/587-2485-2-ND/1169454; Price: 0.0368; Device Package: 0805 (2012 Metric)
footprint FER 0805/2012
pins: 1, 2

## BKP2125HS600-T
designator FB?, comment 60 Ohm @ 100MHz
FERRITE CHIP 60 OHM 0805; Part Number: BKP2125HS600-T; Manufacturer: Taiyo Yuden; Type: Differential Mode - Single; DC Resistance: 25 mOhm Max; Current Rating: 3A; PartId: 6775; Value: 60 Ohm @ 100MHz; Supplier 1: Digi-Key; Supplier Part Number 1: 587-1932-2-ND; ComponentLink1Description: Datasheet; ComponentLink1URL: http://ds.yuden.co.jp/TYCOMPAS/ut/detail.do?productNo=BKP2125HS600-T&fileName=BKP2125HS600-T_SS&mode=specSheetDownload; ComponentLink2Description: Digi-Key listing; ComponentLink2URL: http://digikey.com/product-detail/en/BKP2125HS600-T/587-1932-2-ND/957825; Price: 0.0278; Device Package: 0805 (2012 Metric)
footprint FER 0805/2012
pins: 1, 2

## BLM03AG102SN1D
designator FB?, comment 1 kOhm @ 100MHz
FERRITE BEAD 1 KOHM 0201 1LN; Part Number: BLM03AG102SN1D; Manufacturer: Murata Electronics North America; DC Resistance: 2.5 Ohm; Current Rating: 100mA; PartId: 20356; Value: 1 kOhm @ 100MHz; Supplier 1: Digi-Key; Supplier Part Number 1: 490-5165-2-ND; ComponentLink1Description: Datasheet; ComponentLink1URL: http://search.murata.co.jp/Ceramy/image/img/PDF/ENG/L0110S0100BLM03AG.pdf; ComponentLink2Description: Digi-Key Listing; ComponentLink2URL: https://www.digikey.com/product-detail/en/murata-electronics-north-america/BLM03AG102SN1D/490-5165-2-ND/1948272; Price: 0.0339; Device Package: 0201 (0603 Metric)
footprint FER 0201/0603
pins: 1, 2

## BLM03AG121SN1D
designator FB?, comment 120 Ohm @ 100MHz
FERRITE BEAD 120 OHM 0201 1LN; Part Number: BLM03AG121SN1D; Manufacturer: Murata Electronics North America; DC Resistance: 500 mOhm; Current Rating: 200mA; PartId: 20352; Value: 120 Ohm @ 100MHz; Supplier 1: Digi-Key; Supplier Part Number 1: 490-2557-2-ND; ComponentLink1Description: Datasheet; ComponentLink1URL: http://search.murata.co.jp/Ceramy/image/img/PDF/ENG/L0110S0100BLM03AG.pdf; ComponentLink2Description: Digi-Key Listing; ComponentLink2URL: https://www.digikey.com/product-detail/en/murata-electronics-north-america/BLM03AG121SN1D/490-2557-2-ND/610979; Price: 0.03; Device Package: 0201 (0603 Metric)
footprint FER 0201/0603
pins: 1, 2

## BLM03AG241SN1D
designator FB?, comment 240 Ohm @ 100MHz
FERRITE BEAD 240 OHM 0201 1LN; Part Number: BLM03AG241SN1D; Manufacturer: Murata Electronics North America; DC Resistance: 800 mOhm; Current Rating: 200mA; PartId: 20353; Value: 240 Ohm @ 100MHz; Supplier 1: Digi-Key; Supplier Part Number 1: 490-2558-2-ND; ComponentLink1Description: Datasheet; ComponentLink1URL: http://search.murata.co.jp/Ceramy/image/img/PDF/ENG/L0110S0100BLM03AG.pdf; ComponentLink2Description: Digi-Key Listing; ComponentLink2URL: https://www.digikey.com/product-detail/en/murata-electronics-north-america/BLM03AG241SN1D/490-2558-2-ND/610980; Price: 0.03; Device Package: 0201 (0603 Metric)
footprint FER 0201/0603
pins: 1, 2

## BLM03AG601SN1D
designator FB?, comment 600 Ohm @ 100MHz
FERRITE BEAD 600 OHM 0201 1LN; Part Number: BLM03AG601SN1D; Manufacturer: Murata Electronics North America; DC Resistance: 1.5 Ohm; Current Rating: 100mA; PartId: 20373; Value: 600 Ohm @ 100MHz; Supplier 1: Digi-Key; Supplier Part Number 1: 490-5164-2-ND; ComponentLink1Description: Datasheet; ComponentLink1URL: http://search.murata.co.jp/Ceramy/image/img/PDF/ENG/L0110S0100BLM03AG.pdf; ComponentLink2Description: Digi-Key Listing; ComponentLink2URL: https://www.digikey.com/product-detail/en/murata-electronics-north-america/BLM03AG601SN1D/490-5164-2-ND/1948271; Price: 0.03; Device Package: 0201 (0603 Metric)
footprint FER 0201/0603
pins: 1, 2

## BLM03AG700SN1D
designator FB?, comment 70 Ohm @ 100MHz
FERRITE BEAD 70 OHM 0201 1LN; Part Number: BLM03AG700SN1D; Manufacturer: Murata Electronics North America; DC Resistance: 400 mOhm; Current Rating: 200mA; PartId: 20372; Value: 70 Ohm @ 100MHz; Supplier 1: Digi-Key; Supplier Part Number 1: 490-2556-2-ND; ComponentLink1Description: Datasheet; ComponentLink1URL: http://search.murata.co.jp/Ceramy/image/img/PDF/ENG/L0110S0100BLM03AG.pdf; ComponentLink2Description: Digi-Key Listing; ComponentLink2URL: https://www.digikey.com/product-detail/en/murata-electronics-north-america/BLM03AG700SN1D/490-2556-2-ND/610978; Price: 0.03; Device Package: 0201 (0603 Metric)
footprint FER 0201/0603
pins: 1, 2

## BLM03AX100SN1D
designator FB?, comment 10 Ohm @ 100MHz
FERRITE BEAD 10 OHM 0201 1LN; Part Number: BLM03AX100SN1D; Manufacturer: Murata Electronics North America; DC Resistance: 50 mOhm; Current Rating: 1A; PartId: 20381; Value: 10 Ohm @ 100MHz; Supplier 1: Digi-Key; Supplier Part Number 1: 490-5620-2-ND; ComponentLink1Description: Datasheet; ComponentLink1URL: http://search.murata.co.jp/Ceramy/image/img/PDF/ENG/L0110S0100BLM03AX.pdf; ComponentLink2Description: Digi-Key Listing; ComponentLink2URL: https://www.digikey.com/product-detail/en/murata-electronics-north-america/BLM03AX100SN1D/490-5620-2-ND/2485951; Price: 0.0395; Device Package: 0201 (0603 Metric)
footprint FER 0201/0603
pins: 1, 2

## BLM03AX102SN1D
designator FB?, comment 1 kOhm @ 100MHz
FERRITE BEAD 1 KOHM 0201 1LN; Part Number: BLM03AX102SN1D; Manufacturer: Murata Electronics North America; DC Resistance: 1.25 Ohm; Current Rating: 200mA; PartId: 20359; Value: 1 kOhm @ 100MHz; Supplier 1: Digi-Key; Supplier Part Number 1: 490-5625-2-ND; ComponentLink1Description: Datasheet; ComponentLink1URL: http://search.murata.co.jp/Ceramy/image/img/PDF/ENG/L0110S0100BLM03AX.pdf; ComponentLink2Description: Digi-Key Listing; ComponentLink2URL: https://www.digikey.com/product-detail/en/murata-electronics-north-america/BLM03AX102SN1D/490-5625-2-ND/2485956; Price: 0.0395; Device Package: 0201 (0603 Metric)
footprint FER 0201/0603
pins: 1, 2

## BLM03AX121SN1D
designator FB?, comment 120 Ohm @ 100MHz
FERRITE BEAD 120 OHM 0201 1LN; Part Number: BLM03AX121SN1D; Manufacturer: Murata Electronics North America; DC Resistance: 230 mOhm; Current Rating: 450mA; PartId: 20380; Value: 120 Ohm @ 100MHz; Supplier 1: Digi-Key; Supplier Part Number 1: 490-5622-2-ND; ComponentLink1Description: Datasheet; ComponentLink1URL: http://search.murata.co.jp/Ceramy/image/img/PDF/ENG/L0110S0100BLM03AX.pdf; ComponentLink2Description: Digi-Key Listing; ComponentLink2URL: https://www.digikey.com/product-detail/en/murata-electronics-north-america/BLM03AX121SN1D/490-5622-2-ND/2485953; Price: 0.0395; Device Package: 0201 (0603 Metric)
footprint FER 0201/0603
pins: 1, 2

## BLM03AX241SN1D
designator FB?, comment 240 Ohm @ 100MHz
FERRITE BEAD 240 OHM 0201 1LN; Part Number: BLM03AX241SN1D; Manufacturer: Murata Electronics North America; DC Resistance: 380 mOhm; Current Rating: 350mA; PartId: 20357; Value: 240 Ohm @ 100MHz; Supplier 1: Digi-Key; Supplier Part Number 1: 490-5623-2-ND; ComponentLink1Description: Datasheet; ComponentLink1URL: http://search.murata.co.jp/Ceramy/image/img/PDF/ENG/L0110S0100BLM03AX.pdf; ComponentLink2Description: Digi-Key Listing; ComponentLink2URL: https://www.digikey.com/product-detail/en/murata-electronics-north-america/BLM03AX241SN1D/490-5623-2-ND/2485954; Price: 0.0395; Device Package: 0201 (0603 Metric)
footprint FER 0201/0603
pins: 1, 2

## BLM03AX601SN1D
designator FB?, comment 600 Ohm @ 100MHz
FERRITE BEAD 600 OHM 0201 1LN; Part Number: BLM03AX601SN1D; Manufacturer: Murata Electronics North America; DC Resistance: 850 mOhm; Current Rating: 250mA; PartId: 20358; Value: 600 Ohm @ 100MHz; Supplier 1: Digi-Key; Supplier Part Number 1: 490-5624-2-ND; ComponentLink1Description: Datasheet; ComponentLink1URL: http://search.murata.co.jp/Ceramy/image/img/PDF/ENG/L0110S0100BLM03AX.pdf; ComponentLink2Description: Digi-Key Listing; ComponentLink2URL: https://www.digikey.com/product-detail/en/murata-electronics-north-america/BLM03AX601SN1D/490-5624-2-ND/2485955; Price: 0.0395; Device Package: 0201 (0603 Metric)
footprint FER 0201/0603
pins: 1, 2

## BLM03AX800SN1D
designator FB?, comment 80 Ohm @ 100MHz
FERRITE BEAD 80 OHM 0201 1LN; Part Number: BLM03AX800SN1D; Manufacturer: Murata Electronics North America; DC Resistance: 180 mOhm; Current Rating: 500mA; PartId: 20379; Value: 80 Ohm @ 100MHz; Supplier 1: Digi-Key; Supplier Part Number 1: 490-5621-2-ND; ComponentLink1Description: Datasheet; ComponentLink1URL: http://search.murata.co.jp/Ceramy/image/img/PDF/ENG/L0110S0100BLM03AX.pdf; ComponentLink2Description: Digi-Key Listing; ComponentLink2URL: https://www.digikey.com/product-detail/en/murata-electronics-north-america/BLM03AX800SN1D/490-5621-2-ND/2485952; Price: 0.0395; Device Package: 0201 (0603 Metric)
footprint FER 0201/0603
pins: 1, 2

## BLM03BB100SN1D
designator FB?, comment 10 Ohm @ 100MHz
FERRITE BEAD 10 OHM 0201 1LN; Part Number: BLM03BB100SN1D; Manufacturer: Murata Electronics North America; DC Resistance: 400 mOhm; Current Rating: 300mA; PartId: 20354; Value: 10 Ohm @ 100MHz; Supplier 1: Digi-Key; Supplier Part Number 1: 490-5166-2-ND; ComponentLink1Description: Datasheet; ComponentLink1URL: http://www.murata.com/~/media/webrenewal/products/emiconfun/mail/2011/02/14/en-20110214/l0110s0100blm03b.ashx?la=en; ComponentLink2Description: Digi-Key Listing; ComponentLink2URL: https://www.digikey.com/product-detail/en/murata-electronics-north-america/BLM03BB100SN1D/490-5166-2-ND/1948273; Price: 0.0305; Device Package: 0201 (0603 Metric)
footprint FER 0201/0603
pins: 1, 2

## BLM03BB121SN1D
designator FB?, comment 120 Ohm @ 100MHz
FERRITE BEAD 120 OHM 0201 1LN; Part Number: BLM03BB121SN1D; Manufacturer: Murata Electronics North America; DC Resistance: 1.5 Ohm; Current Rating: 100mA; PartId: 20393; Value: 120 Ohm @ 100MHz; Supplier 1: Digi-Key; Supplier Part Number 1: 490-5170-2-ND; ComponentLink1Description: Datasheet; ComponentLink1URL: http://www.murata.com/~/media/webrenewal/products/emiconfun/mail/2011/02/14/en-20110214/l0110s0100blm03b.ashx?la=en; ComponentLink2Description: Digi-Key Listing; ComponentLink2URL: https://www.digikey.com/product-detail/en/murata-electronics-north-america/BLM03BB121SN1D/490-5170-2-ND/1948277; Price: 0.0305; Device Package: 0201 (0603 Metric)
footprint FER 0201/0603
pins: 1, 2

## BLM03BB750SN1D
designator FB?, comment 75 Ohm @ 100MHz
FERRITE BEAD 75 OHM 0201 1LN; Part Number: BLM03BB750SN1D; Manufacturer: Murata Electronics North America; DC Resistance: 1 Ohm; Current Rating: 200mA; PartId: 20392; Value: 75 Ohm @ 100MHz; Supplier 1: Digi-Key; Supplier Part Number 1: 490-5169-2-ND; ComponentLink1Description: Datasheet; ComponentLink1URL: http://www.murata.com/~/media/webrenewal/products/emiconfun/mail/2011/02/14/en-20110214/l0110s0100blm03b.ashx?la=en; ComponentLink2Description: Digi-Key Listing; ComponentLink2URL: https://www.digikey.com/product-detail/en/murata-electronics-north-america/BLM03BB750SN1D/490-5169-2-ND/1948276; Price: 0.0305; Device Package: 0201 (0603 Metric)
footprint FER 0201/0603
pins: 1, 2

## BLM03BC330SN1D
designator FB?, comment 33 Ohm @ 100MHz
FERRITE BEAD 33 OHM 0201 1LN; Part Number: BLM03BC330SN1D; Manufacturer: Murata Electronics North America; DC Resistance: 850 mOhm; Current Rating: 150mA; PartId: 20374; Value: 33 Ohm @ 100MHz; Supplier 1: Digi-Key; Supplier Part Number 1: 490-11920-2-ND; ComponentLink1Description: Datasheet; ComponentLink1URL: http://www.murata.com/~/media/webrenewal/products/emiconfun/mail/2011/02/14/en-20110214/l0110s0100blm03b.ashx?la=en; ComponentLink2Description: Digi-Key Listing; ComponentLink2URL: https://www.digikey.com/product-detail/en/murata-electronics-north-america/BLM03BC330SN1D/490-11920-2-ND/4358873; Price: 0.0302; Device Package: 0201 (0603 Metric)
footprint FER 0201/0603
pins: 1, 2

## BLM03BD121SN1D
designator FB?, comment 120 Ohm @ 100MHz
FERRITE BEAD 120 OHM 0201 1LN; Part Number: BLM03BD121SN1D; Manufacturer: Murata Electronics North America; DC Resistance: 500 mOhm; Current Rating: 250mA; PartId: 20391; Value: 120 Ohm @ 100MHz; Supplier 1: Digi-Key; Supplier Part Number 1: 490-5172-2-ND; ComponentLink1Description: Datasheet; ComponentLink1URL: http://www.murata.com/~/media/webrenewal/products/emiconfun/mail/2011/02/14/en-20110214/l0110s0100blm03b.ashx?la=en; ComponentLink2Description: Digi-Key Listing; ComponentLink2URL: https://www.digikey.com/product-detail/en/murata-electronics-north-america/BLM03BD121SN1D/490-5172-2-ND/1948279; Price: 0.0305; Device Package: 0201 (0603 Metric)
footprint FER 0201/0603
pins: 1, 2

## BLM03BD241SN1D
designator FB?, comment 240 Ohm @ 100MHz
FERRITE BEAD 240 OHM 0201 1LN; Part Number: BLM03BD241SN1D; Manufacturer: Murata Electronics North America; DC Resistance: 800 mOhm; Current Rating: 200mA; PartId: 20355; Value: 240 Ohm @ 100MHz; Supplier 1: Digi-Key; Supplier Part Number 1: 490-5173-2-ND; ComponentLink1Description: Datasheet; ComponentLink1URL: http://www.murata.com/~/media/webrenewal/products/emiconfun/mail/2011/02/14/en-20110214/l0110s0100blm03b.ashx?la=en; ComponentLink2Description: Digi-Key Listing; ComponentLink2URL: https://www.digikey.com/product-detail/en/murata-electronics-north-america/BLM03BD241SN1D/490-5173-2-ND/1948280; Price: 0.0305; Device Package: 0201 (0603 Metric)
footprint FER 0201/0603
pins: 1, 2